# Altium footprint library Alt_git.PcbLib: 81 footprints (part 5 of 6)
Each footprint in its own frame and in the unit in brackets; x right, y up, seen from the top. Pads: shape width x height; smd on the part's side, far side on the other; paste and mask are expansions set on the pad; w line width, h text height; cw(c..) or ccw(c..) is an arc to the next point about the centre after c.
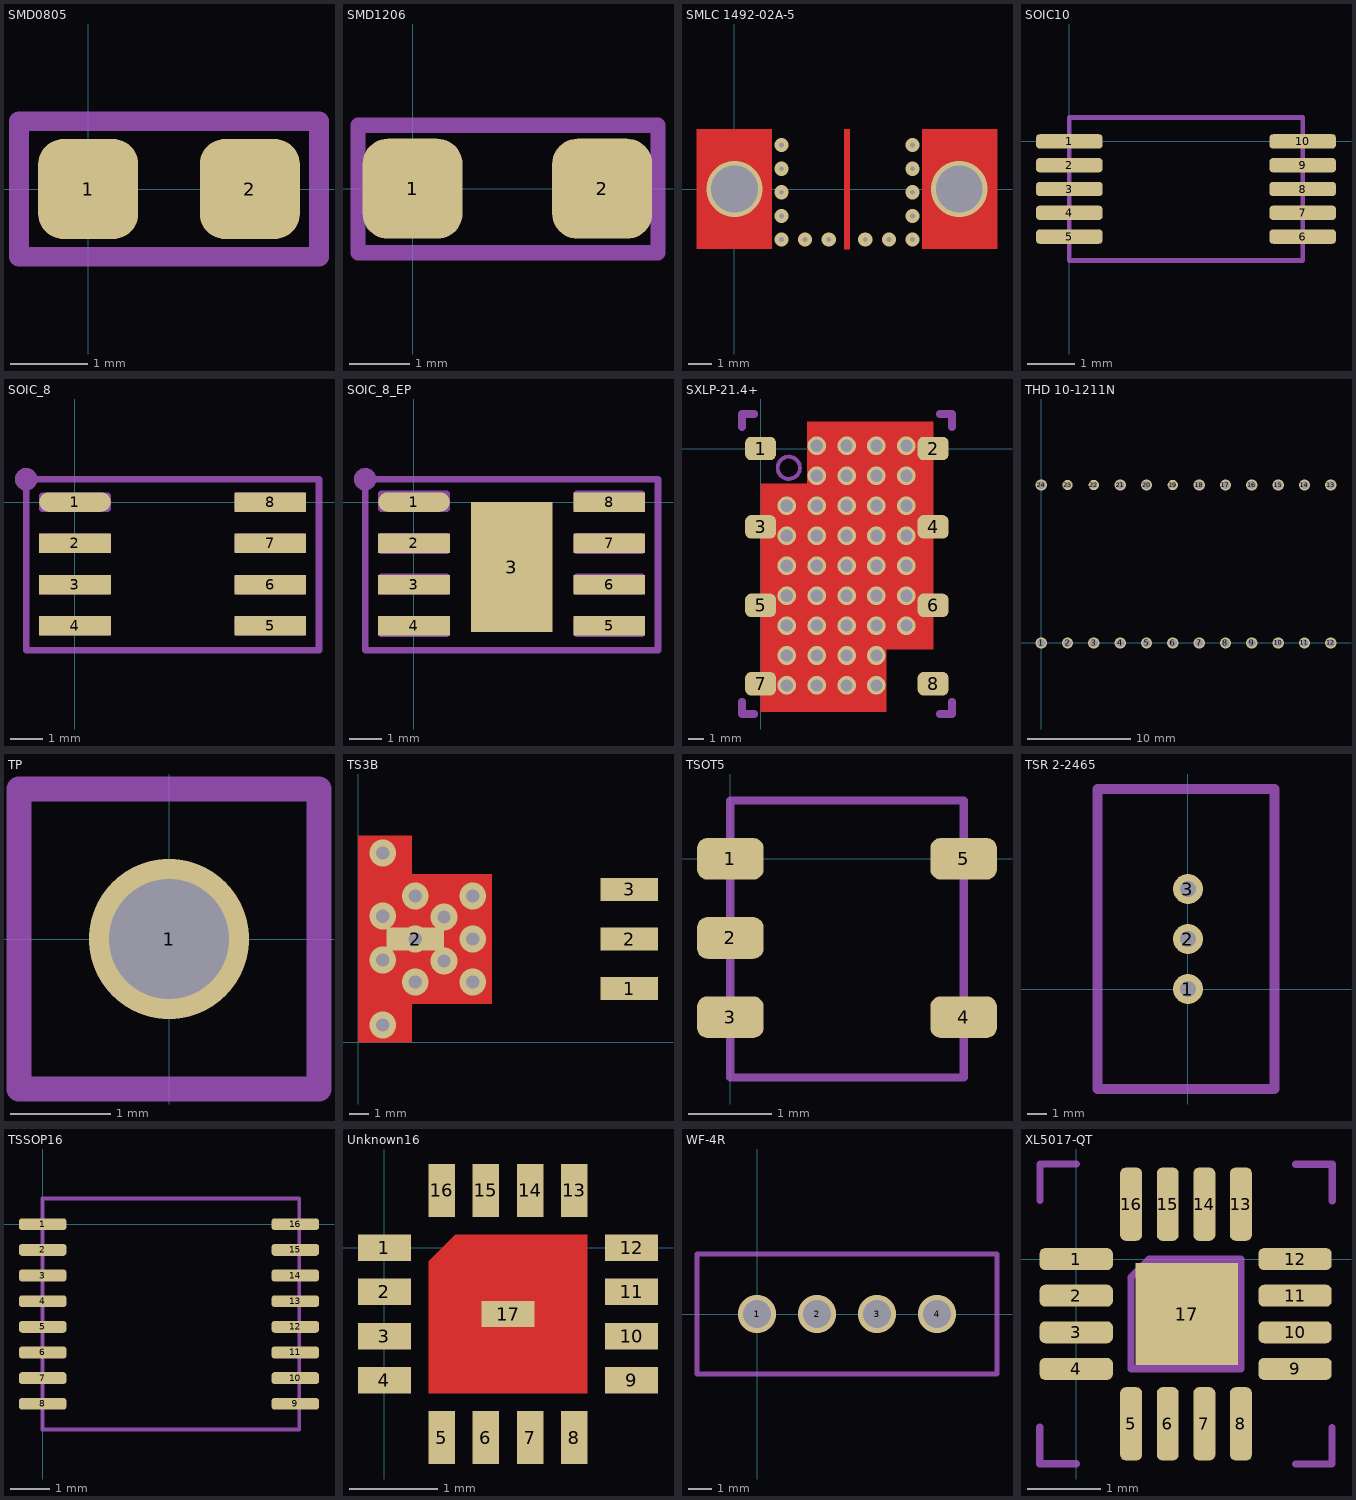
[diagram p4: the footprints below, top view; thin cyan lines are the x and y axes]

## SMD0805 [mm]
pads (2):
  rrect50% 1.3x1.3 smd paste+0: 1(0,0) 2(2.1,0)
Cap:
  lines w0.254: -0.9,-0.88 -0.9,0.88 3,0.88 3,-0.88 -0.9,-0.88
3D body "Корпус SMD0805.stp": height 0.5, standoff 0, extent 0.011,-0.653 2.111,0.647

## SMD1206 [mm]
pads (2):
  rrect50% 1.65x1.65 smd paste+0: 1(0,0) 2(3.13,0)
Cap:
  lines w0.254: -0.9,-1.06 -0.9,1.05 4.05,1.05 4.05,-1.06 -0.9,-1.06
3D body "Корпус SMD1206.stp": height 0.55, standoff 0, extent 0.03,-0.82 3.13,0.78

## SMLC 1492-02A-5 [mm]
via 6.54,-2.14 diameter 0.6 hole 0.2
via 5.54,-2.14 diameter 0.6 hole 0.2
via 2.99,-2.14 diameter 0.6 hole 0.2
via 3.99,-2.14 diameter 0.6 hole 0.2
via 7.54,-2.14 diameter 0.6 hole 0.2
via 7.54,-1.14 diameter 0.6 hole 0.2
via 7.54,-0.14 diameter 0.6 hole 0.2
via 7.54,0.86 diameter 0.6 hole 0.2
via 7.54,1.86 diameter 0.6 hole 0.2
via 1.99,1.86 diameter 0.6 hole 0.2
via 1.99,0.86 diameter 0.6 hole 0.2
via 1.99,-0.14 diameter 0.6 hole 0.2
via 1.99,-1.14 diameter 0.6 hole 0.2
via 1.99,-2.14 diameter 0.6 hole 0.2
via 0,0 diameter 2.38 hole 1.98
via 9.52,0 diameter 2.38 hole 1.98
Top Layer:
  region: 7.945,-2.54 7.945,2.54 11.115,2.54 11.115,-2.54
  region: -1.585,-2.54 -1.585,2.54 1.585,2.54 1.585,-2.54
  region: 4.64,-2.54 4.89,-2.54 4.89,2.54 4.64,2.54

## SOIC10 [mm]
pads (10):
  rrect50% 1.4x0.3 smd: 1(0,0) 2(0,-0.5) 3(0,-1) 4(0,-1.5) 5(0,-2) 6(4.9,-2) 7(4.9,-1.5) 8(4.9,-1) 9(4.9,-0.5) 10(4.9,0)
Cap:
  lines w0.1: 0,-2.5 0,0.5 4.9,0.5 4.9,-2.5 0,-2.5

## SOIC_8 [mm]
pads (8):
  oval 2.2x0.6 smd paste+0: 1(0,0)
  rect 2.2x0.6 smd paste+0: 2(0,-1.27) 3(0,-2.54) 4(0,-3.81) 5(6,-3.81) 6(6,-2.54) 7(6,-1.27) 8(6,0)
MSH:
  circle w0.254: c-1.5,0.7 r0.221
  lines w0.2: -1.5,-4.55 -1.5,0.7 7.5,0.7 7.5,-4.55 -1.5,-4.55 ; -1,-4.01 1,-4.01 1,-3.61 0,-3.61 -1,-3.61 -1,-4.01 ; -1,-2.74 1,-2.74 1,-2.34 0,-2.34 -1,-2.34 -1,-2.74 ; -1,-1.47 1,-1.47 1,-1.07 0,-1.07 -1,-1.07 -1,-1.47 ; -1,-0.2 -1,0.2 0,0.2 1,0.2 1,-0.2 -1,-0.2 ; 5,-4.01 7,-4.01 7,-3.61 6,-3.61 5,-3.61 5,-4.01 ; 5,-2.74 7,-2.74 7,-2.34 6,-2.34 5,-2.34 5,-2.74 ; 5,-1.47 7,-1.47 7,-1.07 6,-1.07 5,-1.07 5,-1.47 ; 5,-0.2 7,-0.2 7,0.2 6,0.2 5,0.2 5,-0.2
3D body "SOIC_8.stp": height 1, standoff 0, extent 0.01,-3.9 6.01,0.1

## SOIC_8_EP [mm]
pads (9):
  oval 2.2x0.6 smd paste+0: 1(0,0)
  rect 2.2x0.6 smd paste+0: 2(0,-1.27) 3(0,-2.54) 4(0,-3.81) 5(6,-3.81) 6(6,-2.54) 7(6,-1.27) 8(6,0)
  rect 2.5x4 smd paste+0: 3(3,-2)
MSH:
  circle w0.254: c-1.5,0.7 r0.22
  lines w0.2: -1.5,-4.55 7.5,-4.55 7.5,0.7 -1.5,0.7 -1.5,-4.55 ; -1,-4.05 -1,-3.6 1,-3.6 1,-4.05 -1,-4.05 ; -1,-2.75 -1,-2.3 1,-2.3 1,-2.75 -1,-2.75 ; -1,-1.5 1,-1.5 1,-1.05 -1,-1.05 -1,-1.5 ; -1,-0.2 -1,0.25 1,0.25 1,-0.2 -1,-0.2 ; 5,-4.05 5,-3.6 7,-3.6 7,-4.05 5,-4.05 ; 5,-2.75 5,-2.3 7,-2.3 7,-2.75 5,-2.75 ; 5,-1.5 5,-1.05 7,-1.05 7,-1.5 5,-1.5 ; 5,-0.2 5,0.25 7,0.25 7,-0.2 5,-0.2
3D body "SOIC_8_EP.stp": height 1, standoff -0.14, extent 0.231,-4.3 5.969,0.6

## SXLP-21.4+ [mm]
pads (8):
  rrect50% 2x1.52 smd paste+0: 1(0,0) 2(11.18,0) 3(0,-5.08) 4(11.18,-5.08) 5(0,-10.16) 6(11.18,-10.16) 7(0,-15.24) 8(11.18,-15.24)
via 1.69,-15.35 diameter 1.2 hole 0.8
via 7.51,-15.35 diameter 1.2 hole 0.8
via 5.57,-15.35 diameter 1.2 hole 0.8
via 3.63,-15.35 diameter 1.2 hole 0.8
via 1.69,-3.71 diameter 1.2 hole 0.8
via 1.69,-9.53 diameter 1.2 hole 0.8
via 1.69,-7.59 diameter 1.2 hole 0.8
via 1.69,-5.65 diameter 1.2 hole 0.8
via 1.69,-11.47 diameter 1.2 hole 0.8
via 1.69,-13.41 diameter 1.2 hole 0.8
via 3.63,-13.41 diameter 1.2 hole 0.8
via 7.51,-11.47 diameter 1.2 hole 0.8
via 7.51,-13.41 diameter 1.2 hole 0.8
via 5.57,-13.41 diameter 1.2 hole 0.8
via 3.63,-11.47 diameter 1.2 hole 0.8
via 3.63,-9.53 diameter 1.2 hole 0.8
via 3.63,-7.59 diameter 1.2 hole 0.8
via 9.45,-7.59 diameter 1.2 hole 0.8
via 7.51,-7.59 diameter 1.2 hole 0.8
via 5.57,-7.59 diameter 1.2 hole 0.8
via 9.45,-9.53 diameter 1.2 hole 0.8
via 7.51,-9.53 diameter 1.2 hole 0.8
via 5.57,-9.53 diameter 1.2 hole 0.8
via 9.45,-11.47 diameter 1.2 hole 0.8
via 5.57,-11.47 diameter 1.2 hole 0.8
via 5.57,-5.65 diameter 1.2 hole 0.8
via 7.51,-5.65 diameter 1.2 hole 0.8
via 9.45,-5.65 diameter 1.2 hole 0.8
via 5.57,-3.71 diameter 1.2 hole 0.8
via 7.51,-3.71 diameter 1.2 hole 0.8
via 9.45,-3.71 diameter 1.2 hole 0.8
via 5.57,-1.77 diameter 1.2 hole 0.8
via 7.51,-1.77 diameter 1.2 hole 0.8
via 9.45,-1.77 diameter 1.2 hole 0.8
via 3.63,-1.77 diameter 1.2 hole 0.8
via 3.63,-3.71 diameter 1.2 hole 0.8
via 3.63,-5.65 diameter 1.2 hole 0.8
via 9.45,0.17 diameter 1.2 hole 0.8
via 7.51,0.17 diameter 1.2 hole 0.8
via 5.57,0.17 diameter 1.2 hole 0.8
via 3.63,0.17 diameter 1.2 hole 0.8
Top Layer:
  region: 8.14,-17.05 0,-17.05 0,-2.28 3.04,-2.28 3.04,1.75 11.18,1.75 11.18,-13.02 8.14,-13.02
Cap:
  circle w0.254: c1.83,-1.25 r0.721
  lines w0.5: -0.4,-17.2 -1.2,-17.2 ; -0.4,2.236 -1.2,2.236 ; 11.6,2.236 12.4,2.236 ; 12.4,-16.4 12.4,-17.2 ; -1.2,-17.2 -1.2,-16.4 -1.2,-17.2 ; -1.2,2.236 -1.2,1.4 -1.2,2.236 ; 12.4,-17.2 11.6,-17.2 12.4,-17.2 ; 12.4,2.236 12.4,1.4 12.4,2.236
3D body "SXLP-21.4+.stp": height 6.96, standoff 0, extent 0,-17.052 11.18,1.748

## THD 10-1211N [mm]
pads (24):
  round 1 hole 0.6: 1(0,0) 2(2.54,0) 3(5.08,0) 4(7.62,0) 5(10.16,0) 6(12.7,0) 7(15.24,0) 8(17.78,0) 9(20.32,0) 10(22.86,0) 11(25.4,0) 12(27.94,0) 13(27.94,15.24) 14(25.4,15.24) 15(22.86,15.24) 16(20.32,15.24) 17(17.78,15.24) 18(15.24,15.24) 19(12.7,15.24) 20(10.16,15.24) 21(7.62,15.24) 22(5.08,15.24) 23(2.54,15.24) 24(0,15.24)
via 0,15.24 diameter 1.1 hole 0.8
via 7.62,15.24 diameter 1.1 hole 0.8
via 10.16,15.24 diameter 1.1 hole 0.8
via 15.24,15.24 diameter 1.1 hole 0.8
via 17.78,15.24 diameter 1.1 hole 0.8
via 20.32,15.24 diameter 1.1 hole 0.8
via 22.86,15.24 diameter 1.1 hole 0.8
via 25.4,15.24 diameter 1.1 hole 0.8
via 27.94,15.24 diameter 1.1 hole 0.8
via 0,0 diameter 1.1 hole 0.8
via 2.54,0 diameter 1.1 hole 0.8
via 5.08,0 diameter 1.1 hole 0.8
via 7.62,0 diameter 1.1 hole 0.8
via 10.16,0 diameter 1.1 hole 0.8
via 12.7,0 diameter 1.1 hole 0.8
via 15.24,0 diameter 1.1 hole 0.8
via 17.78,0 diameter 1.1 hole 0.8
via 20.32,0 diameter 1.1 hole 0.8
via 22.86,0 diameter 1.1 hole 0.8
via 25.4,0 diameter 1.1 hole 0.8
via 27.94,0 diameter 1.1 hole 0.8
Top Paste:
  circle w0.2: c0,0 r0.4
  circle w0.2: c2.54,0 r0.4
  circle w0.2: c5.08,0 r0.4
  circle w0.2: c7.62,0 r0.4
  circle w0.2: c10.16,0 r0.4
  circle w0.2: c12.7,0 r0.4
  circle w0.2: c15.24,0 r0.4
  circle w0.2: c17.78,0 r0.4
  circle w0.2: c20.32,0 r0.4
  circle w0.2: c22.86,0 r0.4
  circle w0.2: c25.4,0 r0.4
  circle w0.2: c27.94,0 r0.4
  circle w0.2: c27.94,15.24 r0.4
  circle w0.2: c25.4,15.24 r0.4
  circle w0.2: c22.86,15.24 r0.4
  circle w0.2: c20.32,15.24 r0.4
  circle w0.2: c17.78,15.24 r0.4
  circle w0.2: c15.24,15.24 r0.4
  circle w0.2: c12.7,15.24 r0.4
  circle w0.2: c10.16,15.24 r0.4
  circle w0.2: c7.62,15.24 r0.4
  circle w0.2: c0,15.24 r0.4
  circle w0.2: c2.54,15.24 r0.4
  circle w0.2: c5.08,15.24 r0.4
Bottom Paste:
  circle w0.2: c0,0 r0.4
  circle w0.2: c2.54,0 r0.4
  circle w0.2: c5.08,0 r0.4
  circle w0.2: c7.62,0 r0.4
  circle w0.2: c10.16,0 r0.4
  circle w0.2: c12.7,0 r0.4
  circle w0.2: c15.24,0 r0.4
  circle w0.2: c17.78,0 r0.4
  circle w0.2: c20.32,0 r0.4
  circle w0.2: c22.86,0 r0.4
  circle w0.2: c25.4,0 r0.4
  circle w0.2: c27.94,0 r0.4
  circle w0.2: c27.94,15.24 r0.4
  circle w0.2: c25.4,15.24 r0.4
  circle w0.2: c22.86,15.24 r0.4
  circle w0.2: c20.32,15.24 r0.4
  circle w0.2: c17.78,15.24 r0.4
  circle w0.2: c15.24,15.24 r0.4
  circle w0.2: c12.7,15.24 r0.4
  circle w0.2: c10.16,15.24 r0.4
  circle w0.2: c7.62,15.24 r0.4
  circle w0.2: c0,15.24 r0.4
  circle w0.2: c2.54,15.24 r0.4
  circle w0.2: c5.08,15.24 r0.4
3D body "THD 10-1211N.stp": height 10.36, standoff -4.1, extent -2.74,-2.54 29.06,17.76

## TP [mm]
pads (1):
  rect 0.5x0.5 smd paste+0: 1(0,0)
via 0,0 diameter 1.6 hole 1.2
Cap:
  lines w0.254: -1.5,-1.5 -1.5,1.5 1.5,1.5 1.5,-1.5 -1.5,-1.5
3D body "Корпус TP.stp": height 7.5, standoff 0, extent -1.261,-1.278 1.279,1.262

## TS3B [mm]
pads (4):
  rect 3x1.2 smd: 1(14.2,2.8) 2(3,5.4) 2(14.2,5.4) 3(14.2,8)
via 1.3,4.3 diameter 1.4 hole 0.7
via 1.3,0.9 diameter 1.4 hole 0.7
via 1.3,6.6 diameter 1.4 hole 0.7
via 1.3,9.9 diameter 1.4 hole 0.7
via 3,7.65 diameter 1.4 hole 0.7
via 4.5,6.55 diameter 1.4 hole 0.7
via 6,7.65 diameter 1.4 hole 0.7
via 3,5.4 diameter 1.4 hole 0.7
via 6,5.4 diameter 1.4 hole 0.7
via 3,3.15 diameter 1.4 hole 0.7
via 4.5,4.25 diameter 1.4 hole 0.7
via 6,3.15 diameter 1.4 hole 0.7
Top Layer:
  region: 0,0 0,10.8 2.8,10.8 2.8,8.8 7,8.8 7,2 2.8,2 2.8,0
Top Paste:
  region: 0,0 0,10.8 2.8,10.8 2.8,8.8 7,8.8 7,2 2.8,2 2.8,0

## TSOT5 [mm]
pads (5):
  rrect50% 0.8x0.5 smd: 1(0,0) 2(0,-0.95) 3(0,-1.9) 4(2.8,-1.9) 5(2.8,0)
Cap:
  lines w0.1: 0,-2.625 0,0.7 2.8,0.7 2.8,-2.625 0,-2.625
3D body "TSOT5.stp": height 0.9, standoff -0.04, extent 0,-2.4 2.775,0.5

## TSR 2-2465 [mil]
pads (3):
  round 60 hole 29.53: 1(0,0) 2(0,100) 3(0,200)
via 0,200 diameter 49.21 hole 31.5
via 0,100 diameter 49.21 hole 31.5
via 0,0 diameter 49.21 hole 31.5
Top Paste:
  circle w15.75: c0,0 r20.47
  circle w15.75: c0,100 r20.47
  circle w15.75: c0,200 r20.47
Bottom Paste:
  circle w15.75: c0,0 r20.47
  circle w15.75: c0,100 r20.47
  circle w15.75: c0,200 r20.47
Connect:
  lines w19.68: -181.1,-200 173.23,-200 173.23,400 -181.1,400 -181.1,-200
3D body "TSR 2-2465.stp": height 397.64, standoff -181.1, extent -153.54,-177.17 147.65,374.01

## TSSOP16 [mm]
pads (16):
  rrect50% 1.2x0.3 smd: 1(0,0) 2(0,-0.65) 3(0,-1.3) 4(0,-1.95) 5(0,-2.6) 6(0,-3.25) 7(0,-3.9) 8(0,-4.55) 9(6.4,-4.55) 10(6.4,-3.9) 11(6.4,-3.25) 12(6.4,-2.6) 13(6.4,-1.95) 14(6.4,-1.3) 15(6.4,-0.65) 16(6.4,0)
Cap:
  lines w0.1: 0,-5.2 6.5,-5.2 6.5,0.65 0,0.65 0,-5.2

## Unknown16 [mm]
pads (17):
  rect 0.6x0.3 smd: 1(0,0) 2(0,-0.5) 3(0,-1) 4(0,-1.5) 9(2.8,-1.5) 10(2.8,-1) 11(2.8,-0.5) 12(2.8,0) 17(1.4,-0.75)
  rect 0.3x0.6 smd: 5(0.65,-2.15) 6(1.15,-2.15) 7(1.65,-2.15) 8(2.15,-2.15) 13(2.15,0.65) 14(1.65,0.65) 15(1.15,0.65) 16(0.65,0.65)
Top Layer:
  region: 0.5,-0.15 0.5,-1.65 2.3,-1.65 2.3,0.15 0.8,0.15

## WF-4R [mm]
pads (4):
  rect 0.5x0.5 smd paste+0: 1(0,0) 2(2.54,0) 3(5.08,0) 4(7.62,0)
via 0,0 diameter 1.6 hole 1.2
via 2.54,0 diameter 1.6 hole 1.2
via 7.62,0 diameter 1.6 hole 1.2
via 5.08,0 diameter 1.6 hole 1.2
Top Paste:
  circle w0.2: c0,0 r0.7
  circle w0.2: c2.54,0 r0.7
  circle w0.2: c5.08,0 r0.7
  circle w0.2: c7.62,0 r0.7
Bottom Paste:
  circle w0.2: c0,0 r0.7
  circle w0.2: c2.54,0 r0.7
  circle w0.2: c5.08,0 r0.7
  circle w0.2: c7.62,0 r0.7
Connect:
  circle w0.254: c7.62,0 r0.68
  circle w0.254: c5.08,0 r0.68
  circle w0.254: c2.54,0 r0.68
  circle w0.254: c0,0 r0.68
  lines w0.2: -2.54,-2.54 -2.54,2.54 10.16,2.54 10.16,0 10.16,-2.54 -2.54,-2.54
3D body "WF-4R.stp": height 5.8, standoff -6.9, extent -1.3,-13.4 8.9,0.4

## XL5017-QT [mm]
pads (17):
  rrect50% 1x0.3 smd paste+0: 1(0,0) 2(0,-0.5) 3(0,-1) 4(0,-1.5) 9(2.99,-1.5) 10(2.99,-1) 11(2.99,-0.5) 12(2.99,0)
  rrect50% 0.3x1 smd paste+0: 5(0.75,-2.25) 6(1.25,-2.25) 7(1.75,-2.25) 8(2.25,-2.25) 13(2.25,0.75) 14(1.75,0.75) 15(1.25,0.75) 16(0.75,0.75)
  rect 1.4x1.4 smd paste+0: 17(1.51,-0.75)
Cap:
  lines w0.1: -0.499,-2.295 -0.499,-2.794 0,-2.794 ; -0.494,0.8 -0.494,1.299 0.005,1.299 ; 2.995,-2.799 3.494,-2.799 3.494,-2.3 ; 3,1.294 3.499,1.294 3.499,0.795 ; 0.748,-1.497 0.748,-0.249 0.998,0 2.245,0 2.245,-1.497 0.748,-1.497
3D body "LNA XL5017_QT.stp": height 1.1, standoff 0, extent -0.006,-2.245 2.994,0.754